# EAGLE library part MP2731 (library MP2731)
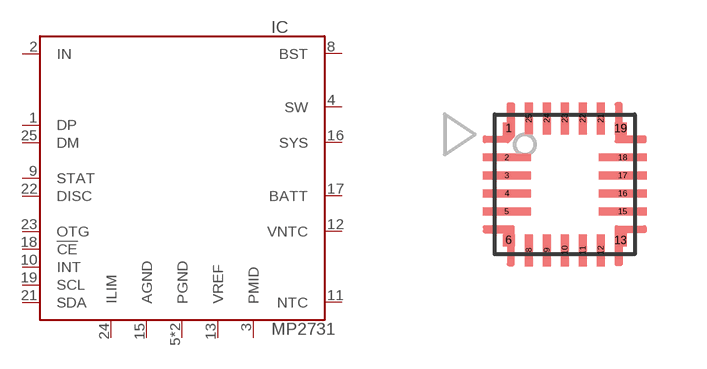
[diagram p0: symbol with the pads of QFN-26-3.5; footprint QFN-26-3.5]

Designator prefix IC

## MP2731GQC (MARK: BMA__; MF: Monolithic Power; MPN: MP2731GQC-0000-Z)  [QFN-26-3.5]
1  DP
2  IN  in
3  PMID
4  SW  out
5  PGND  pwr
6  PGND  pwr
8  BST
9  STAT  oc
10  INT  oc
11  NTC  in
12  VNTC  out
13  VREF
15  AGND  pwr
16  SYS  in
17  BATT
18  !CE  in
19  SCL  oc
21  SDA  oc
22  DISC  in
23  OTG  in
24  ILIM
25  DM

## Footprint QFN-26-3.5 (pad centres in mm)
smd 0.3 x 0.3: 1 -1.4,1.4; 6 -1.4,-1.4; 13 1.4,-1.4; 19 1.4,1.4
smd 1.2 x 0.2: 2 -1.45,0.675; 3 -1.45,0.225; 4 -1.45,-0.225; 5 -1.45,-0.675; 15 1.45,-0.675; 16 1.45,-0.225; 17 1.45,0.225; 18 1.45,0.675
smd 0.2 x 0.8: 8 -0.9,-1.65; 9 -0.45,-1.65; 10 0,-1.65; 11 0.45,-1.65; 12 0.9,-1.65; 21 0.9,1.65; 22 0.45,1.65; 23 0,1.65; 24 -0.45,1.65; 25 -0.9,1.65